# Altium integrated library Analog Devices Data Converters Digital-to-Analog Converters.IntLib: 2231 symbols (part 32 of 181)
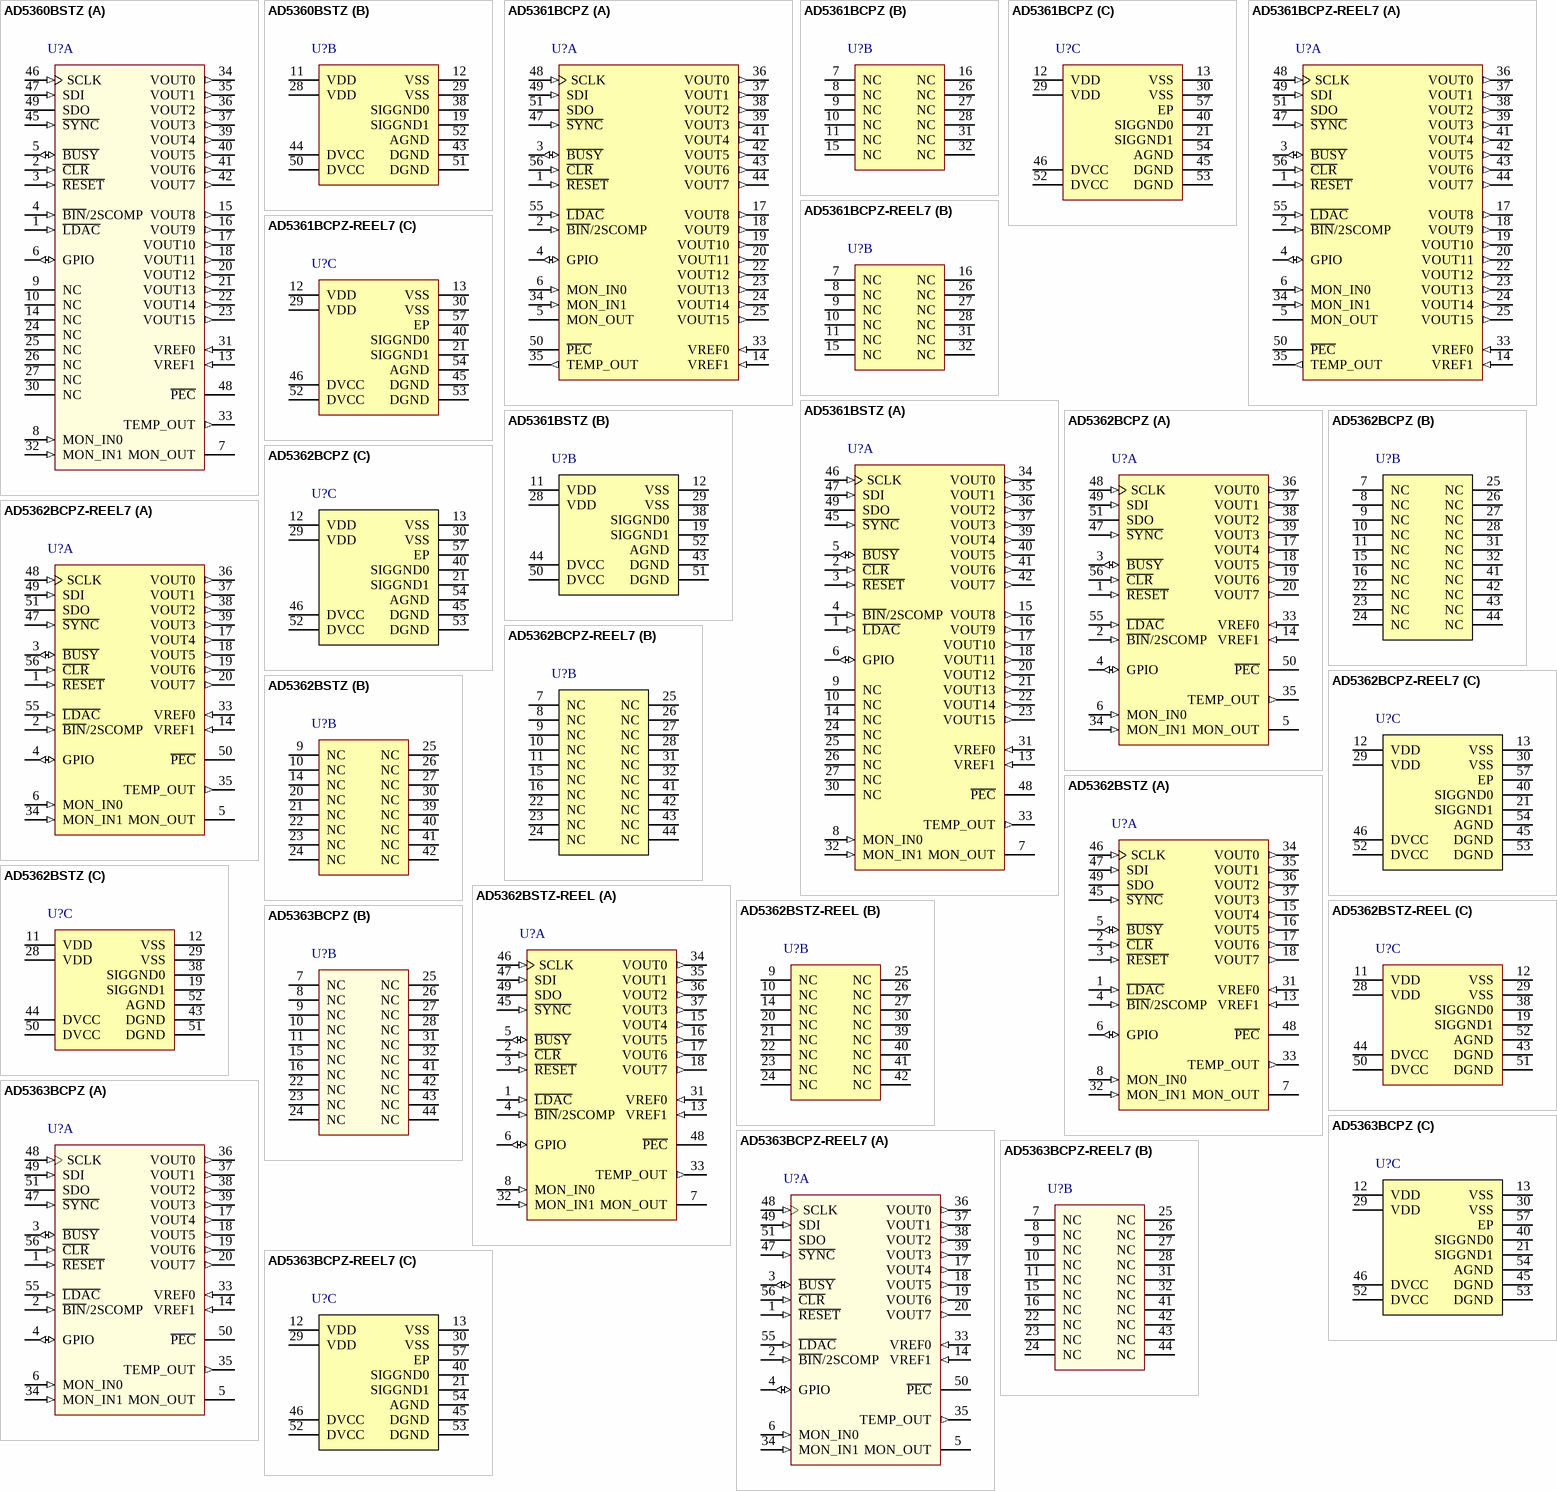
[diagram p145: symbols AD5360BSTZ to AD5363BCPZ-REEL7]

## AD5361BCPZ-REEL7
designator U?
14-Bit Digital-to-Analog Converter with Serial Interface, -40 to +85 degC, CP-56-1, Pb-Free, Reel; Generic Part Number: AD5361; Manufacturer: Analog Devices; PartNumber: AD5361BCPZ-REEL7; # DAC Outputs: 16; Max V+: 16.5V; Op Pwr Diss: 130mW; Resolution (Bits): 14; Settling Time: 20µs; Single Supply: No; DatasheetVersion: Rev.A; PackageVersion: 112805-0; PackageReference: CP-56-1; PackageDescription: 56-Lead Lead Frame Chip Scale Package [LFCSP_VQ], 8 x 8 mm Body, Very Thin Quad; Supplier 1: Digi-Key; Supplier Part Number 1: AD5361BCPZ-REEL7-ND; Supplier 2: Mouser; Supplier Part Number 2: 584-AD5361BCPZ-R7; Packing: Reel; RoHS: Y; Mounting Technology: Surface Mount; Code_JEDEC: MO-220-VLLD-2; ComponentLink1Description: Manufacturer URL; ComponentLink1URL: http://www.analog.com/en/index.html; ComponentLink2Description: Datasheet; ComponentLink2URL: http://www.analog.com/static/imported-files/data_sheets/AD5360_5361.pdf; ComponentLink3Description: Package Specification; ComponentLink3URL: http://www.analog.com/static/imported-files/packages/32698137492825CP_56_1.pdf; ComponentLink4Description: Product URL; ComponentLink4URL: http://www.analog.com/en/digital-to-analog-converters/da-converters/ad5361/products/product.html
footprint CP-56-1_N (QFN, 56-Leads, Body 8x8mm, Pitch 0.5mm, Thermal Pad 6.1x6.1mm, IPC Medium Density)
footprint CP-56-1_L (QFN, 56-Leads, Body 8x8mm, Pitch 0.5mm, Thermal Pad 6.1x6.1mm, IPC High Density)
footprint CP-56-1_M (QFN, 56-Leads, Body 8x8mm, Pitch 0.5mm, Thermal Pad 6.1x6.1mm, IPC Low Density)
part A pins: 1 ~{RESET} (in) "Digital Reset Input.", 2 ~{BIN}/2SCOMP (in) "Data Format Digital Input. Connecting this pin to DGND selects offset binary. Connecting this pin to logic 1 selects twos complement. This input has a weak pull-down.", 3 ~{BUSY} (io) "Digital Input/Open-Drain Output. B\U\S\Y\ is open drain when it is an output. See the B\U\S\Y\ and L\D\A\C\ Functions section for more information.", 4 GPIO (io) "Digital I/O Pin. This pin can be configured as an input or output that can be read or programmed high or low via the serial interface. When configured as an input, it has a weak pull-down.", 5 MON_OUT (hiz) "Analog Multiplexer Output. Any DAC output, the MON_IN0 input, or the MON_IN1 input can be switched to this output.", 6 MON_IN0 (in) "Analog Multiplexer Inputs. Can be switched to MON_OUT.", 14 VREF1 (in) "Reference Input for DAC 8 to DAC 15. This voltage is referred to AGND.", 17 VOUT8 (out) "DAC Outputs. Buffered analog outputs for each of the 16 DAC channels. Each analog output is capable of driving an output load of 10 kO to ground. Typical output impedance of these amplifiers is 0.5 ohm.", 18 VOUT9 (out) "DAC Outputs. Buffered analog outputs for each of the 16 DAC channels. Each analog output is capable of driving an output load of 10 kO to ground. Typical output impedance of these amplifiers is 0.5 ohm.", 19 VOUT10 (out) "DAC Outputs. Buffered analog outputs for each of the 16 DAC channels. Each analog output is capable of driving an output load of 10 kO to ground. Typical output impedance of these amplifiers is 0.5 ohm.", 20 VOUT11 (out) "DAC Outputs. Buffered analog outputs for each of the 16 DAC channels. Each analog output is capable of driving an output load of 10 kO to ground. Typical output impedance of these amplifiers is 0.5ohm.", 22 VOUT12 (out) "DAC Outputs. Buffered analog outputs for each of the 16 DAC channels. Each analog output is capable of driving an output load of 10 kO to ground. Typical output impedance of these amplifiers is 0.5 ohm.", 23 VOUT13 (out) "DAC Outputs. Buffered analog outputs for each of the 16 DAC channels. Each analog output is capable of driving an output load of 10 kO to ground. Typical output impedance of these amplifiers is 0.5 ohm.", 24 VOUT14 (out) "DAC Outputs. Buffered analog outputs for each of the 16 DAC channels. Each analog output is capable of driving an output load of 10 kO to ground. Typical output impedance of these amplifiers is 0.5 ohm.", 25 VOUT15 (out) "DAC Outputs. Buffered analog outputs for each of the 16 DAC channels. Each analog output is capable of driving an output load of 10 kO to ground. Typical output impedance of these amplifiers is 0.5 ohm.", 33 VREF0 (in) "Reference Input for DAC 0 to DAC 7. This voltage is referred to AGND.", 34 MON_IN1 (in) "Analog Multiplexer Inputs. Can be switched to MON_OUT.", 35 TEMP_OUT (out) "Provides an output voltage proportional to chip temperature. This is typically 1.46 V at 25degreesC with an output variation of 4.4 mV/degreesC.", 36 VOUT0 (out) "DAC Outputs. Buffered analog outputs for each of the 16 DAC channels. Each analog output is capable of driving an output load of 10 kO to ground. Typical output impedance of these amplifiers is 0.5 ohm.", 37 VOUT1 (out) "DAC Outputs. Buffered analog outputs for each of the 16 DAC channels. Each analog output is capable of driving an output load of 10 kO to ground. Typical output impedance of these amplifiers is 0.5 ohm.", 38 VOUT2 (out) "DAC Outputs. Buffered analog outputs for each of the 16 DAC channels. Each analog output is capable of driving an output load of 10 kO to ground. Typical output impedance of these amplifiers is 0.5 ohm.", 39 VOUT3 (out) "DAC Outputs. Buffered analog outputs for each of the 16 DAC channels. Each analog output is capable of driving an output load of 10 kO to ground. Typical output impedance of these amplifiers is 0.5 ohm.", 41 VOUT4 (out) "DAC Outputs. Buffered analog outputs for each of the 16 DAC channels. Each analog output is capable of driving an output load of 10 kO to ground. Typical output impedance of these amplifiers is 0.5 ohm.", 42 VOUT5 (out) "DAC Outputs. Buffered analog outputs for each of the 16 DAC channels. Each analog output is capable of driving an output load of 10 kO to ground. Typical output impedance of these amplifiers is 0.5 ohm.", 43 VOUT6 (out) "DAC Outputs. Buffered analog outputs for each of the 16 DAC channels. Each analog output is capable of driving an output load of 10 kO to ground. Typical output impedance of these amplifiers is 0.5 ohm.", 44 VOUT7 (out) "DAC Outputs. Buffered analog outputs for each of the 16 DAC channels. Each analog output is capable of driving an output load of 10 kO to ground. Typical output impedance of these amplifiers is 0.5 ohm.", 47 ~{SYNC} (in) "Active Low or S\Y\N\C\ Input for SPI Interface. This is the frame synchronization signal for the SPI serial interface. See Figure 4, Figure 5, and the Serial Interface section for more details.", 48 SCLK (in) "Serial Clock Input for SPI Interface. See Figure 4, Figure 5, and the Serial Interface section for more details.", 49 SDI (in) "Serial Data Input for SPI Interface. See Figure 4, Figure 5, and the Serial Interface section for more details.", 50 ~{PEC} (oc) "Packet Error Check Output. This is an open-drain output with a 50 kO pull-up that goes low if the packet error check fails.", 51 SDO (hiz) "Serial Data Output for SPI Interface. See Figure 4, Figure 5, and the Serial Interface section for more details.", 55 ~{LDAC} (in) "Load DAC Logic Input (Active Low). See the B\U\S\Y\ and L\D\A\C\ Functions section for more information.", 56 ~{CLR} (in) "Asynchronous Clear Input (Level Sensitive, Active Low). See the Clear Function section for more information."
part B pins: 7 NC "No Connect.", 8 NC "No Connect.", 9 NC "No Connect.", 10 NC "No Connect.", 11 NC "No Connect.", 15 NC "No Connect.", 16 NC "No Connect.", 26 NC "No Connect.", 27 NC "No Connect.", 28 NC "No Connect.", 31 NC "No Connect.", 32 NC "No Connect."
part C pins: 12 VDD (power) "Positive Analog Power Supply; +9 V to +16.5 V for specified performance. These pins should be decoupled with 0.1 uF ceramic capacitors and 10 uF capacitors.", 13 VSS (power) "Negative Analog Power Supply; -16.5 V to -8 V for specified performance. These pins should be decoupled with 0.1 uF ceramic capacitors and 10 uF capacitors.", 21 SIGGND1 (power) "Reference Ground for DAC 8 to DAC 15. VOUT8 to VOUT15 are referenced to this voltage.", 29 VDD (power) "Positive Analog Power Supply; +9 V to +16.5 V for specified performance. These pins should be decoupled with 0.1 uF ceramic capacitors and 10 uF capacitors.", 30 VSS (power) "Negative Analog Power Supply; -16.5 V to -8 V for specified performance. These pins should be decoupled with 0.1 uF ceramic capacitors and 10 uF capacitors.", 40 SIGGND0 (power) "Reference Ground for DAC 0 to DAC 7. VOUT0 to VOUT7 are referenced to this voltage.", 45 DGND (power) "Ground for All Digital Circuitry. Both DGND pins should be connected to the DGND plane.", 46 DVCC (power) "Logic Power Supply; 2.5 V to 5.5 V. These pins should be decoupled with 0.1 uF ceramic capacitors and 10 uF capacitors.", 52 DVCC (power) "Logic Power Supply; 2.5 V to 5.5 V. These pins should be decoupled with 0.1 uF ceramic capacitors and 10 uF capacitors.", 53 DGND (power) "Ground for All Digital Circuitry. Both DGND pins should be connected to the DGND plane.", 54 AGND (power) "Ground for All Analog Circuitry. The AGND pin should be connected to the AGND plane.", 57 EP (power) "Exposed Paddle."

## AD5361BSTZ
designator U?
14-Bit Digital-to-Analog Converter with Serial Interface, -40 to +85 degC, ST-52, Pb-Free, Tray; Generic Part Number: AD5361; Manufacturer: Analog Devices; PartNumber: AD5361BSTZ; # DAC Outputs: 16; Max V+: 16.5V; Op Pwr Diss: 130mW; Resolution (Bits): 14; Settling Time: 20µs; Single Supply: No; DatasheetVersion: Rev.A; PackageVersion: 2003; PackageReference: ST-52; PackageDescription: 52-Lead Low Profile Quad Flat Package [LQFP]; Supplier 1: Digi-Key; Supplier Part Number 1: AD5361BSTZ-ND; Supplier 2: Farnell; Supplier Part Number 2: 1589549; Supplier 3: Mouser; Supplier Part Number 3: 584-AD5361BSTZ; Packing: Tray; RoHS: Y; Mounting Technology: Surface Mount; Code_JEDEC: MS-026-BCC; ComponentLink1Description: Manufacturer URL; ComponentLink1URL: http://www.analog.com/en/index.html; ComponentLink2Description: Datasheet; ComponentLink2URL: http://www.analog.com/static/imported-files/data_sheets/AD5360_5361.pdf; ComponentLink3Description: Package Specification; ComponentLink3URL: http://www.analog.com/static/imported-files/packages/61012411624300842189414155189544791816408612ST_52_10x10.pdf; ComponentLink4Description: Product URL; ComponentLink4URL: http://www.analog.com/en/digital-to-analog-converters/da-converters/ad5361/products/product.html
footprint ST-52_N (Thin QFP, 52-Leads, Body 10 x 10mm, Pitch 0.65mm, IPC Medium Density)
footprint ST-52_L (Thin QFP, 52-Leads, Body 10 x 10mm, Pitch 0.65mm, IPC High Density)
footprint ST-52_M (Thin QFP, 52-Leads, Body 10 x 10mm, Pitch 0.65mm, IPC Low Density)
part A pins: 1 ~{LDAC} (in) "Load DAC Logic Input (Active Low). See the B\U\S\Y\ and L\D\A\C\ Functions section for more information.", 2 ~{CLR} (in) "Asynchronous Clear Input (Level Sensitive, Active Low). See the Clear Function section for more information.", 3 ~{RESET} (in) "Digital Reset Input.", 4 ~{BIN}/2SCOMP (in) "Data Format Digital Input. Connecting this pin to DGND selects offset binary. Connecting this pin to logic 1 selects twos complement. This input has a weak pull-down.", 5 ~{BUSY} (io) "Digital Input/Open-Drain Output. B\U\S\Y\ is open drain when it is an output. See the B\U\S\Y\ and L\D\A\C\ Functions section for more information.", 6 GPIO (io) "Digital I/O Pin. This pin can be configured as an input or output that can be read or programmed high or low via the serial interface. When configured as an input, it has a weak pull-down.", 7 MON_OUT (hiz) "Analog Multiplexer Output. Any DAC output, the MON_IN0 input, or the MON_IN1 input can be switched to this output.", 8 MON_IN0 (in) "Analog Multiplexer Input. Can be switched to MON_OUT.", 9 NC "No Connect.", 10 NC "No Connect.", 13 VREF1 (in) "Reference Input for DAC 8 to DAC 15. This voltage is referred to AGND.", 14 NC "No Connect.", 15 VOUT8 (out) "DAC Output. Buffered analog outputs for each of the 16 DAC channels. Each analog output is capable of driving an output load of 10 k ohm to ground. Typical output impedance of these amplifiers is 0.5 ohm.", 16 VOUT9 (out) "DAC Output. Buffered analog outputs for each of the 16 DAC channels. Each analog output is capable of driving an output load of 10 k ohm to ground. Typical output impedance of these amplifiers is 0.5 ohm.", 17 VOUT10 (out) "DAC Output. Buffered analog outputs for each of the 16 DAC channels. Each analog output is capable of driving an output load of 10 k ohm to ground. Typical output impedance of these amplifiers is 0.5 ohm.", 18 VOUT11 (out) "DAC Output. Buffered analog outputs for each of the 16 DAC channels. Each analog output is capable of driving an output load of 10 k ohm to ground. Typical output impedance of these amplifiers is 0.5 ohm.", 20 VOUT12 (out) "DAC Output. Buffered analog outputs for each of the 16 DAC channels. Each analog output is capable of driving an output load of 10 k ohm to ground. Typical output impedance of these amplifiers is 0.5 ohm.", 21 VOUT13 (out) "DAC Output. Buffered analog outputs for each of the 16 DAC channels. Each analog output is capable of driving an output load of 10 k ohm to ground. Typical output impedance of these amplifiers is 0.5 ohm.", 22 VOUT14 (out) "DAC Output. Buffered analog outputs for each of the 16 DAC channels. Each analog output is capable of driving an output load of 10 k ohm to ground. Typical output impedance of these amplifiers is 0.5 ohm.", 23 VOUT15 (out) "DAC Output. Buffered analog outputs for each of the 16 DAC channels. Each analog output is capable of driving an output load of 10 k ohm to ground. Typical output impedance of these amplifiers is 0.5 ohm.", 24 NC "No Connect.", 25 NC "No Connect.", 26 NC "No Connect.", 27 NC "No Connect.", 30 NC "No Connect.", 31 VREF0 (in) "Reference Input for DAC 0 to DAC 7. This voltage is referred to AGND.", 32 MON_IN1 (in) "Analog Multiplexer Input. Can be switched to MON_OUT.", 33 TEMP_OUT (out) "Provides an output voltage proportional to chip temperature. This is typically 1.46 V at 25degreesC with an output variation of 4.4 mV/degreesC.", 34 VOUT0 (out) "DAC Output. Buffered analog outputs for each of the 16 DAC channels. Each analog output is capable of driving an output load of 10 k ohm to ground. Typical output impedance of these amplifiers is 0.5 ohm.", 35 VOUT1 (out) "DAC Output. Buffered analog outputs for each of the 16 DAC channels. Each analog output is capable of driving an output load of 10 k ohm to ground. Typical output impedance of these amplifiers is 0.5 ohm.", 36 VOUT2 (out) "DAC Output. Buffered analog outputs for each of the 16 DAC channels. Each analog output is capable of driving an output load of 10 k ohm to ground. Typical output impedance of these amplifiers is 0.5 ohm.", 37 VOUT3 (out) "DAC Output. Buffered analog outputs for each of the 16 DAC channels. Each analog output is capable of driving an output load of 10 k ohm to ground. Typical output impedance of these amplifiers is 0.5 ohm.", 39 VOUT4 (out) "DAC Output. Buffered analog outputs for each of the 16 DAC channels. Each analog output is capable of driving an output load of 10 k ohm to ground. Typical output impedance of these amplifiers is 0.5 ohm.", 40 VOUT5 (out) "DAC Output. Buffered analog outputs for each of the 16 DAC channels. Each analog output is capable of driving an output load of 10 k ohm to ground. Typical output impedance of these amplifiers is 0.5 ohm.", 41 VOUT6 (out) "DAC Output. Buffered analog outputs for each of the 16 DAC channels. Each analog output is capable of driving an output load of 10 k ohm to ground. Typical output impedance of these amplifiers is 0.5 ohm.", 42 VOUT7 (out) "DAC Output. Buffered analog outputs for each of the 16 DAC channels. Each analog output is capable of driving an output load of 10 k ohm to ground. Typical output impedance of these amplifiers is 0.5 ohm.", 45 ~{SYNC} (in) "Active Low or S\Y\N\C\ Input for SPI Interface. This is the frame synchronization signal for the SPI serial interface. See Figure 4, Figure 5,and the Serial Interface section for more details.", 46 SCLK (in) "Serial Clock Input for SPI Interface. See Figure 4, Figure 5, and the Serial Interface section for more details.", 47 SDI (in) "Serial Data Input for SPI Interface. See Figure 4, Figure 5, and the Serial Interface section for more details.", 48 ~{PEC} (oc) "Packet Error Check Output. This is an open-drain output with a 50 k ohm pull-up that goes low if the packet error check fails.", 49 SDO (hiz) "Serial Data Output for SPI Interface. See Figure 4, Figure 5, and the Serial Interface section for more details."
part B pins: 11 VDD (power) "Positive Analog Power Supply; +9 V to +16.5 V for specified performance. These pins should be decoupled with 0.1 uF ceramic capacitors and 10 uF capacitors.", 12 VSS (power) "Negative Analog Power Supply; -16.5 V to -8 V for specified performance. These pins should be decoupled with 0.1 uF ceramic capacitors and 10 uF capacitors.", 19 SIGGND1 (power) "Reference Ground for DAC 8 to DAC 15. VOUT8 to VOUT15 are referenced to this voltage.", 28 VDD (power) "Positive Analog Power Supply; +9 V to +16.5 V for specified performance. These pins should be decoupled with 0.1 uF ceramic capacitors and 10 uF capacitors.", 29 VSS (power) "Negative Analog Power Supply; -16.5 V to -8 V for specified performance. These pins should be decoupled with 0.1 uF ceramic capacitors and 10 uF capacitors.", 38 SIGGND0 (power) "Reference Ground for DAC 0 to DAC 7. VOUT0 to VOUT7 are referenced to this voltage.", 43 DGND (power) "Ground for All Digital Circuitry. Both DGND pins should be connected to the DGND plane.", 44 DVCC (power) "Logic Power Supply; 2.5 V to 5.5 V. These pins should be decoupled with 0.1 uF ceramic capacitors and 10 uF capacitors.", 50 DVCC (power) "Logic Power Supply; 2.5 V to 5.5 V. These pins should be decoupled with 0.1 uF ceramic capacitors and 10 uF capacitors.", 51 DGND (power) "Ground for All Digital Circuitry. Both DGND pins should be connected to the DGND plane.", 52 AGND (power) "Ground for All Analog Circuitry. The AGND pin should be connected to the AGND plane."

## AD5362BCPZ
designator U?
16-Bit Voltage Output Digital-to-Analog Converter with Serial Interface, -40 to +85 degC, CP-56-1, Pb-Free, Tray; Generic Part Number: AD5362; Manufacturer: Analog Devices; PartNumber: AD5362BCPZ; # DAC Outputs: 8; Max V+: 16.5V; Op Pwr Diss: 209mW; Resolution (Bits): 16; Settling Time: 20µs; Single Supply: No; DatasheetVersion: Rev.A; PackageVersion: 112805-0; PackageReference: CP-56-1; PackageDescription: 56-Lead Lead Frame Chip Scale Package [LFCSP_VQ], 8 x 8 mm Body, Very Thin Quad; Supplier 1: Digi-Key; Supplier Part Number 1: AD5362BCPZ-ND; Supplier 2: Farnell; Supplier Part Number 2: 1589545; Supplier 3: Newark; Supplier Part Number 3: 34M4967; Supplier 4: Mouser; Supplier Part Number 4: 584-AD5362BCPZ; Packing: Tray; RoHS: Y; Mounting Technology: Surface Mount; Code_JEDEC: MO-220-VLLD-2; ComponentLink1Description: Manufacturer URL; ComponentLink1URL: http://www.analog.com/en/index.html; ComponentLink2Description: Datasheet; ComponentLink2URL: http://www.analog.com/static/imported-files/data_sheets/AD5362_5363.pdf; ComponentLink3Description: Package Specification; ComponentLink3URL: http://www.analog.com/static/imported-files/packages/32698137492825CP_56_1.pdf; ComponentLink4Description: Product URL; ComponentLink4URL: http://www.analog.com/en/digital-to-analog-converters/da-converters/ad5362/products/product.html
footprint CP-56-1_N (QFN, 56-Leads, Body 8x8mm, Pitch 0.5mm, Thermal Pad 6.1x6.1mm, IPC Medium Density)
footprint CP-56-1_L (QFN, 56-Leads, Body 8x8mm, Pitch 0.5mm, Thermal Pad 6.1x6.1mm, IPC High Density)
footprint CP-56-1_M (QFN, 56-Leads, Body 8x8mm, Pitch 0.5mm, Thermal Pad 6.1x6.1mm, IPC Low Density)
part A pins: 1 ~{RESET} (in) "Digital Reset Input.", 2 ~{BIN}/2SCOMP (in) "Data Format Digital Input. Connecting this pin to DGND selects offset binary. Setting this pin to 1 selects twos complement. This input has a weak pull-down.", 3 ~{BUSY} (io) "Digital Input/Open-Drain Output. B\U\SY\ is open drain when it is an output. See the B\U\S\Y\ and L\D\A\C\ Functions section for more information.", 4 GPIO (io) "Digital I/O Pin. This pin can be configured as an input or output that can be read back or programmed high or low via the serial interface. When configured as an input, this pin has a weak pull-down.", 5 MON_OUT (hiz) "Analog Multiplexer Output. Any DAC output, the MON_IN0 input, or the MON_IN1 input can be routed to this output for monitoring", 6 MON_IN0 (in) "Analog Multiplexer Input. Can be routed to MON_OUT.", 14 VREF1 (in) "Reference Input for DAC 4 to DAC 7. This reference voltage is referred to AGND.", 17 VOUT4 (out) "DAC Output. Buffered analog outputs for each of the eight DAC channels. Each analog output is capable of driving an output load of 10 kO to ground. Typical output impedance of these amplifiers is 0.5 O.", 18 VOUT5 (out) "DAC Output. Buffered analog outputs for each of the eight DAC channels. Each analog output is capable of driving an output load of 10 kO to ground. Typical output impedance of these amplifiers is 0.5 O.", 19 VOUT6 (out) "DAC Output. Buffered analog outputs for each of the eight DAC channels. Each analog output is capable of driving an output load of 10 kO to ground. Typical output impedance of these amplifiers is 0.5 O.", 20 VOUT7 (out) "DAC Output. Buffered analog outputs for each of the eight DAC channels. Each analog output is capable of driving an output load of 10 kO to ground. Typical output impedance of these amplifiers is 0.5 O.", 33 VREF0 (in) "Reference Input for DAC 0 to DAC 3. This reference voltage is referred to AGND.", 34 MON_IN1 (in) "Analog Multiplexer Inputs. Can be routed to MON_OUT.", 35 TEMP_OUT (out) "Provides an output voltage proportional to the chip temperature, typically 1.46 V at 25degreesC with an output variation of 4.4 mV/degreesC", 36 VOUT0 (out) "DAC Output. Buffered analog outputs for each of the eight DAC channels. Each analog output is capable of driving an output load of 10 kO to ground. Typical output impedance of these amplifiers is 0.5 O.", 37 VOUT1 (out) "DAC Output. Buffered analog outputs for each of the eight DAC channels. Each analog output is capable of driving an output load of 10 kO to ground. Typical output impedance of these amplifiers is 0.5 O.", 38 VOUT2 (out) "DAC Output. Buffered analog outputs for each of the eight DAC channels. Each analog output is capable of driving an output load of 10 kO to ground. Typical output impedance of these amplifiers is 0.5 O.", 39 VOUT3 (out) "DAC Output. Buffered analog outputs for each of the eight DAC channels. Each analog output is capable of driving an output load of 10 kO to ground. Typical output impedance of these amplifiers is 0.5 O.", 47 ~{SYNC} (in) "Active Low or S\Y\N\C\  Input for SPI Interface. This is the frame synchronization signal for the SPI serial interface. See Figure 4 , Figure 5, and the  Serial Interface section for more details", 48 SCLK (in) "Serial Clock Input for SPI Interface. See Figure 4, Figure 5, and the Serial Interface section for more details.", 49 SDI (in) "Serial Data Input for SPI Interface. See Figure 4, Figure 5, and the Serial Interface section for more details.", 50 ~{PEC} (oc) "Packet Error Check Output. This is an open-drain output with a 50 kO pull-up that goes low if the packet error check fails.", 51 SDO (hiz) "Serial Data Output for SPI Interface. See Figure 4, Figure 5, and the Serial Interface section for more details.", 55 ~{LDAC} (in) "Load DAC Logic Input (Active Low). See the BUSY and LDAC Functions section for more information", 56 ~{CLR} (in) "Asynchronous Clear Input (Level Sensitive, Active Low). See the Clear Function section for more information"
part B pins: 7 NC "No Connect.", 8 NC "No Connect.", 9 NC "No Connect.", 10 NC "No Connect.", 11 NC "No Connect.", 15 NC "No Connect.", 16 NC "No Connect.", 22 NC "No Connect.", 23 NC "No Connect.", 24 NC "No Connect.", 25 NC "No Connect.", 26 NC "No Connect.", 27 NC "No Connect.", 28 NC "No Connect.", 31 NC "No Connect.", 32 NC "No Connect.", 41 NC "No Connect.", 42 NC "No Connect.", 43 NC "No Connect.", 44 NC "No Connect."
part C pins: 12 VDD (power) "Positive Analog Power Supply; 9 V to 16.5 V for specified performance. These pins should be decoupled with 0.1 uF ceramic capacitors and 10 uF capacitors", 13 VSS (power) "Negative Analog Power Supply; -16.5 V to -8 V for specified performance. These pins should be decoupled with 0.1 uF ceramic capacitors and 10 uF capacitors.", 21 SIGGND1 (power) "Reference Ground for DAC 4 to DAC 7. VOUT4 to VOUT7 are referenced to this voltage.", 29 VDD (power) "Positive Analog Power Supply; 9 V to 16.5 V for specified performance. These pins should be decoupled with 0.1 uF ceramic capacitors and 10 uF capacitors", 30 VSS (power) "Negative Analog Power Supply; -16.5 V to -8 V for specified performance. These pins should be decoupled with 0.1 uF ceramic capacitors and 10 uF capacitors.", 40 SIGGND0 (power) "Reference Ground for DAC 0 to DAC 3. VOUT0 to VOUT3 are referenced to this voltage.", 45 DGND (power) "Ground for All Digital Circuitry. Both DGND pins should be connected to the DGND plane.", 46 DVCC (power) "Logic Power Supply; 2.5 V to 5.5 V. These pins should be decoupled with 0.1 uF ceramic capacitors and 10 uF capacitors.", 52 DVCC (power) "Logic Power Supply; 2.5 V to 5.5 V. These pins should be decoupled with 0.1 uF ceramic capacitors and 10 uF capacitors.", 53 DGND (power) "Ground for All Digital Circuitry. Both DGND pins should be connected to the DGND plane.", 54 AGND (power) "Ground for All Analog Circuitry. The AGND pin should be connected to the AGND plane.", 57 EP (power) "Exposed Paddle. Connect to VSS."

## AD5362BCPZ-REEL7
designator U?
8 Channel 16-Bit, Voltage Output Digital-to-Analog Converter with Serial Interface, -40 to +85 degC, CP-56-1, Pb-Free, Reel; Generic Part Number: AD5362; Manufacturer: Analog Devices; PartNumber: AD5362BCPZ-REEL7; # DAC Outputs: 8; Max V+: 16.5V; Op Pwr Diss: 209mW; Resolution (Bits): 16; Settling Time: 20µs; Single Supply: No; DatasheetVersion: Rev.A; PackageVersion: 112805-0; PackageReference: CP-56-1; PackageDescription: 56-Lead Lead Frame Chip Scale Package [LFCSP_VQ], 8 x 8 mm Body, Very Thin Quad; Supplier 1: Digi-Key; Supplier Part Number 1: AD5362BCPZ-REEL7-ND; Supplier 2: Mouser; Supplier Part Number 2: 584-AD5362BCPZ-R7; Packing: Reel; RoHS: Y; Mounting Technology: Surface Mount; Code_JEDEC: MO-220-VLLD-2; ComponentLink1Description: Manufacturer URL; ComponentLink1URL: http://www.analog.com/en/index.html; ComponentLink2Description: Datasheet; ComponentLink2URL: http://www.analog.com/static/imported-files/data_sheets/AD5362_5363.pdf; ComponentLink3Description: Package Specification; ComponentLink3URL: http://www.analog.com/static/imported-files/packages/32698137492825CP_56_1.pdf; ComponentLink4Description: Product URL; ComponentLink4URL: http://www.analog.com/en/digital-to-analog-converters/da-converters/ad5362/products/product.html
footprint CP-56-1_N (QFN, 56-Leads, Body 8x8mm, Pitch 0.5mm, Thermal Pad 6.1x6.1mm, IPC Medium Density)
footprint CP-56-1_L (QFN, 56-Leads, Body 8x8mm, Pitch 0.5mm, Thermal Pad 6.1x6.1mm, IPC High Density)
footprint CP-56-1_M (QFN, 56-Leads, Body 8x8mm, Pitch 0.5mm, Thermal Pad 6.1x6.1mm, IPC Low Density)
part A pins: 1 ~{RESET} (in) "Digital Reset Input.", 2 ~{BIN}/2SCOMP (in) "Data Format Digital Input. Connecting this pin to DGND selects offset binary. Setting this pin to 1 selects twos complement. This input has a weak pull-down.", 3 ~{BUSY} (io) "Digital Input/Open-Drain Output. B\U\SY\ is open drain when it is an output. See the B\U\S\Y\ and L\D\A\C\ Functions section for more information.", 4 GPIO (io) "Digital I/O Pin. This pin can be configured as an input or output that can be read back or programmed high or low via the serial interface. When configured as an input, this pin has a weak pull-down.", 5 MON_OUT (hiz) "Analog Multiplexer Output. Any DAC output, the MON_IN0 input, or the MON_IN1 input can be routed to this output for monitoring", 6 MON_IN0 (in) "Analog Multiplexer Input. Can be routed to MON_OUT.", 14 VREF1 (in) "Reference Input for DAC 4 to DAC 7. This reference voltage is referred to AGND.", 17 VOUT4 (out) "DAC Output. Buffered analog outputs for each of the eight DAC channels. Each analog output is capable of driving an output load of 10 kO to ground. Typical output impedance of these amplifiers is 0.5 O.", 18 VOUT5 (out) "DAC Output. Buffered analog outputs for each of the eight DAC channels. Each analog output is capable of driving an output load of 10 kO to ground. Typical output impedance of these amplifiers is 0.5 O.", 19 VOUT6 (out) "DAC Output. Buffered analog outputs for each of the eight DAC channels. Each analog output is capable of driving an output load of 10 kO to ground. Typical output impedance of these amplifiers is 0.5 O.", 20 VOUT7 (out) "DAC Output. Buffered analog outputs for each of the eight DAC channels. Each analog output is capable of driving an output load of 10 kO to ground. Typical output impedance of these amplifiers is 0.5 O.", 33 VREF0 (in) "Reference Input for DAC 0 to DAC 3. This reference voltage is referred to AGND.", 34 MON_IN1 (in) "Analog Multiplexer Inputs. Can be routed to MON_OUT.", 35 TEMP_OUT (out) "Provides an output voltage proportional to the chip temperature, typically 1.46 V at 25degreesC with an output variation of 4.4 mV/degreesC", 36 VOUT0 (out) "DAC Output. Buffered analog outputs for each of the eight DAC channels. Each analog output is capable of driving an output load of 10 kO to ground. Typical output impedance of these amplifiers is 0.5 O.", 37 VOUT1 (out) "DAC Output. Buffered analog outputs for each of the eight DAC channels. Each analog output is capable of driving an output load of 10 kO to ground. Typical output impedance of these amplifiers is 0.5 O.", 38 VOUT2 (out) "DAC Output. Buffered analog outputs for each of the eight DAC channels. Each analog output is capable of driving an output load of 10 kO to ground. Typical output impedance of these amplifiers is 0.5 O.", 39 VOUT3 (out) "DAC Output. Buffered analog outputs for each of the eight DAC channels. Each analog output is capable of driving an output load of 10 kO to ground. Typical output impedance of these amplifiers is 0.5 O.", 47 ~{SYNC} (in) "Active Low or S\Y\N\C\  Input for SPI Interface. This is the frame synchronization signal for the SPI serial interface. See Figure 4 , Figure 5, and the  Serial Interface section for more details", 48 SCLK (in) "Serial Clock Input for SPI Interface. See Figure 4, Figure 5, and the Serial Interface section for more details.", 49 SDI (in) "Serial Data Input for SPI Interface. See Figure 4, Figure 5, and the Serial Interface section for more details.", 50 ~{PEC} (oc) "Packet Error Check Output. This is an open-drain output with a 50 kO pull-up that goes low if the packet error check fails.", 51 SDO (hiz) "Serial Data Output for SPI Interface. See Figure 4, Figure 5, and the Serial Interface section for more details.", 55 ~{LDAC} (in) "Load DAC Logic Input (Active Low). See the BUSY and LDAC Functions section for more information", 56 ~{CLR} (in) "Asynchronous Clear Input (Level Sensitive, Active Low). See the Clear Function section for more information"
part B pins: 7 NC "No Connect.", 8 NC "No Connect.", 9 NC "No Connect.", 10 NC "No Connect.", 11 NC "No Connect.", 15 NC "No Connect.", 16 NC "No Connect.", 22 NC "No Connect.", 23 NC "No Connect.", 24 NC "No Connect.", 25 NC "No Connect.", 26 NC "No Connect.", 27 NC "No Connect.", 28 NC "No Connect.", 31 NC "No Connect.", 32 NC "No Connect.", 41 NC "No Connect.", 42 NC "No Connect.", 43 NC "No Connect.", 44 NC "No Connect."
part C pins: 12 VDD (power) "Positive Analog Power Supply; 9 V to 16.5 V for specified performance. These pins should be decoupled with 0.1 uF ceramic capacitors and 10 uF capacitors", 13 VSS (power) "Negative Analog Power Supply; -16.5 V to -8 V for specified performance. These pins should be decoupled with 0.1 uF ceramic capacitors and 10 uF capacitors.", 21 SIGGND1 (power) "Reference Ground for DAC 4 to DAC 7. VOUT4 to VOUT7 are referenced to this voltage.", 29 VDD (power) "Positive Analog Power Supply; 9 V to 16.5 V for specified performance. These pins should be decoupled with 0.1 uF ceramic capacitors and 10 uF capacitors", 30 VSS (power) "Negative Analog Power Supply; -16.5 V to -8 V for specified performance. These pins should be decoupled with 0.1 uF ceramic capacitors and 10 uF capacitors.", 40 SIGGND0 (power) "Reference Ground for DAC 0 to DAC 3. VOUT0 to VOUT3 are referenced to this voltage.", 45 DGND (power) "Ground for All Digital Circuitry. Both DGND pins should be connected to the DGND plane.", 46 DVCC (power) "Logic Power Supply; 2.5 V to 5.5 V. These pins should be decoupled with 0.1 uF ceramic capacitors and 10 uF capacitors.", 52 DVCC (power) "Logic Power Supply; 2.5 V to 5.5 V. These pins should be decoupled with 0.1 uF ceramic capacitors and 10 uF capacitors.", 53 DGND (power) "Ground for All Digital Circuitry. Both DGND pins should be connected to the DGND plane.", 54 AGND (power) "Ground for All Analog Circuitry. The AGND pin should be connected to the AGND plane.", 57 EP (power) "Exposed Paddle. Connect to VSS."

## AD5362BSTZ
designator U?
16-Bit Voltage Output Digital-to-Analog Converter with Serial Interface, -40 to +85 degC, ST-52, Pb-Free, Tray; Generic Part Number: AD5362; Manufacturer: Analog Devices; PartNumber: AD5362BSTZ; # DAC Outputs: 8; Max V+: 16.5V; Op Pwr Diss: 209mW; Resolution (Bits): 16; Settling Time: 20µs; Single Supply: No; DatasheetVersion: Rev.A; PackageVersion: 2003; PackageReference: ST-52; PackageDescription: 52-Lead Low Profile Quad Flat Package [LQFP]; Supplier 1: Digi-Key; Supplier Part Number 1: AD5362BSTZ-ND; Supplier 2: Farnell; Supplier Part Number 2: 1589546; Supplier 3: Farnell; Supplier Part Number 3: 1581723; Supplier 4: Newark; Supplier Part Number 4: 34M4969; Supplier 5: Mouser; Supplier Part Number 5: 584-AD5362BSTZ; Packing: Tray; RoHS: Y; Mounting Technology: Surface Mount; Code_JEDEC: MS-026-BCC; ComponentLink1Description: Manufacturer URL; ComponentLink1URL: http://www.analog.com/en/index.html; ComponentLink2Description: Datasheet; ComponentLink2URL: http://www.analog.com/static/imported-files/data_sheets/AD5362_5363.pdf; ComponentLink3Description: Package Specification; ComponentLink3URL: http://www.analog.com/static/imported-files/packages/61012411624300842189414155189544791816408612ST_52_10x10.pdf; ComponentLink4Description: Product URL; ComponentLink4URL: http://www.analog.com/en/digital-to-analog-converters/da-converters/ad5362/products/product.html
footprint ST-52_N (Thin QFP, 52-Leads, Body 10 x 10mm, Pitch 0.65mm, IPC Medium Density)
footprint ST-52_L (Thin QFP, 52-Leads, Body 10 x 10mm, Pitch 0.65mm, IPC High Density)
footprint ST-52_M (Thin QFP, 52-Leads, Body 10 x 10mm, Pitch 0.65mm, IPC Low Density)
part A pins: 1 ~{LDAC} (in) "Load DAC Logic Input (Active Low). See the B\U\S\Y\ and L\D\A\C\ Functions section for more information.", 2 ~{CLR} (in) "Asynchronous Clear Input (Level Sensitive, Active Low). See the Clear Function section for more information.", 3 ~{RESET} (in) "Digital Reset Input", 4 ~{BIN}/2SCOMP (in) "Data Format Digital Input. Connecting this pin to DGND selects offset binary. Setting this pin to 1 selects twos complement. This input has a weak pull-down.", 5 ~{BUSY} (io) "Digital Input/Open-Drain Output. B\U\S\Y\ is open drain when it is an output. See the B\U\S\Y\ and L\D\A\C\ Functions section for more information.", 6 GPIO (io) "Digital I/O Pin. This pin can be configured as an input or output that can be read back or programmed high or low via the serial interface. When configured as an input, this pin has weak pull-down.", 7 MON_OUT (hiz) "Analog Multiplexer Output. Any DAC output, the MON_IN0 input, or the MON_IN1 input can be routed to this output for monitoring.", 8 MON_IN0 (in) "Analog Multiplexer Input. Can be routed to MON_OUT.", 13 VREF1 (in) "Reference Input for DAC 4 to DAC 7. This reference voltage is referred to AGND.", 15 VOUT4 (out) "DAC Output. Buffered analog outputs for each of the eight DAC channels. Each analog output is capable of driving an output load of 10 kO to ground. Typical output impedance of these amplifiers is 0.5 O", 16 VOUT5 (out) "DAC Output. Buffered analog outputs for each of the eight DAC channels. Each analog output is capable of driving an output load of 10 kO to ground. Typical output impedance of these amplifiers is 0.5 O", 17 VOUT6 (out) "DAC Output. Buffered analog outputs for each of the eight DAC channels. Each analog output is capable of driving an output load of 10 kO to ground. Typical output impedance of these amplifiers is 0.5 O", 18 VOUT7 (out) "DAC Output. Buffered analog outputs for each of the eight DAC channels. Each analog output is capable of driving an output load of 10 kO to ground. Typical output impedance of these amplifiers is 0.5 O", 31 VREF0 (in) "Reference Input for DAC 0 to DAC 3. This reference voltage is referred to AGND.", 32 MON_IN1 (in) "Analog Multiplexer Input. Can be routed to MON_OUT.", 33 TEMP_OUT (out) "Provides an output voltage proportional to the chip temperature, typically 1.46 V at 25degreesC with an output variation of 4.4 mV/degreesC.", 34 VOUT0 (out) "DAC Output. Buffered analog outputs for each of the eight DAC channels. Each analog output is capable of driving an output load of 10 kO to ground. Typical output impedance of these amplifiers is 0.5 O", 35 VOUT1 (out) "DAC Output. Buffered analog outputs for each of the eight DAC channels. Each analog output is capable of driving an output load of 10 kO to ground. Typical output impedance of these amplifiers is 0.5 O", 36 VOUT2 (out) "DAC Output. Buffered analog outputs for each of the eight DAC channels. Each analog output is capable of driving an output load of 10 kO to ground. Typical output impedance of these amplifiers is 0.5 O", 37 VOUT3 (out) "DAC Output. Buffered analog outputs for each of the eight DAC channels. Each analog output is capable of driving an output load of 10 kO to ground. Typical output impedance of these amplifiers is 0.5 O", 45 ~{SYNC} (in) "Active Low or SYNC Input for SPI Interface. This is the frame synchronization signal for the SPI serial interface. See Figure 4 , Figure 5, and the  Serial Interface section for more details", 46 SCLK (in) "Serial Clock Input for SPI Interface. See Figure 4, Figure 5, and the Serial Interface section for more details", 47 SDI (in) "Serial Data Input for SPI Interface. See Figure 4, Figure 5, and the Serial Interface section for more details.", 48 ~{PEC} (oc) "Packet Error Check Output. This is an open-drain output with a 50 kO pull-up that goes low if the packet error check fails.", 49 SDO (hiz) "Serial Data Output for SPI Interface. See Figure 4, Figure 5, and the Serial Interface section for more details."
part B pins: 9 NC "No Connect", 10 NC "No Connect", 14 NC "No Connect", 20 NC "No Connect", 21 NC "No Connect", 22 NC "No Connect", 23 NC "No Connect", 24 NC "No Connect", 25 NC "No Connect", 26 NC "No Connect", 27 NC "No Connect", 30 NC "No Connect", 39 NC "No Connect", 40 NC "No Connect", 41 NC "No Connect", 42 NC "No Connect"
part C pins: 11 VDD (power) "Positive Analog Power Supply; 9 V to 16.5 V for specified performance. These pins should be decoupled with 0.1 uF ceramic capacitors and 10 uF capacitors.", 12 VSS (power) "Negative Analog Power Supply; -16.5 V to -8 V for specified performance. These pins should be decoupled with 0.1 uF ceramic capacitors and 10 uF capacitors.", 19 SIGGND1 (power) "Reference Ground for DAC 4 to DAC 7. VOUT4 to VOUT7 are referenced to this voltage.", 28 VDD (power) "Positive Analog Power Supply; 9 V to 16.5 V for specified performance. These pins should be decoupled with 0.1 uF ceramic capacitors and 10 uF capacitors.", 29 VSS (power) "Negative Analog Power Supply; -16.5 V to -8 V for specified performance. These pins should be decoupled with 0.1 uF ceramic capacitors and 10 uF capacitors.", 38 SIGGND0 (power) "Reference Ground for DAC 0 to DAC 3. VOUT0 to VOUT3 are referenced to this voltage.", 43 DGND (power) "Ground for All Digital Circuitry. Both DGND pins should be connected to the DGND plane.", 44 DVCC (power) "Logic Power Supply; 2.5 V to 5.5 V. These pins should be decoupled with 0.1 uF ceramic capacitors and 10 uF capacitors", 50 DVCC (power) "Logic Power Supply; 2.5 V to 5.5 V. These pins should be decoupled with 0.1 uF ceramic capacitors and 10 uF capacitors", 51 DGND (power) "Ground for All Digital Circuitry. Both DGND pins should be connected to the DGND plane.", 52 AGND (power) "Ground for All Analog Circuitry. The AGND pin should be connected to the AGND plane."

## AD5362BSTZ-REEL
designator U?
16-Bit Voltage Output Digital-to-Analog Converter with Serial Interface, -40 to +85 degC, ST-52, Pb-Free, Reel; Generic Part Number: AD5362; Manufacturer: Analog Devices; PartNumber: AD5362BSTZ-REEL; # DAC Outputs: 8; Max V+: 16.5V; Op Pwr Diss: 209mW; Resolution (Bits): 16; Settling Time: 20µs; Single Supply: No; DatasheetVersion: Rev.A; PackageVersion: 2003; PackageReference: ST-52; PackageDescription: 52-Lead Low Profile Quad Flat Package [LQFP]; Supplier 1: Digi-Key; Supplier Part Number 1: AD5362BSTZ-REEL-ND; Supplier 2: Mouser; Supplier Part Number 2: 584-AD5362BSTZ-R; Packing: Reel; RoHS: Y; Mounting Technology: Surface Mount; Code_JEDEC: MS-026-BCC; ComponentLink1Description: Manufacturer URL; ComponentLink1URL: http://www.analog.com/en/index.html; ComponentLink2Description: Datasheet; ComponentLink2URL: http://www.analog.com/static/imported-files/data_sheets/AD5362_5363.pdf; ComponentLink3Description: Package Specification; ComponentLink3URL: http://www.analog.com/static/imported-files/packages/61012411624300842189414155189544791816408612ST_52_10x10.pdf; ComponentLink4Description: Product URL; ComponentLink4URL: http://www.analog.com/en/digital-to-analog-converters/da-converters/ad5362/products/product.html
footprint ST-52_N (Thin QFP, 52-Leads, Body 10 x 10mm, Pitch 0.65mm, IPC Medium Density)
footprint ST-52_L (Thin QFP, 52-Leads, Body 10 x 10mm, Pitch 0.65mm, IPC High Density)
footprint ST-52_M (Thin QFP, 52-Leads, Body 10 x 10mm, Pitch 0.65mm, IPC Low Density)
part A pins: 1 ~{LDAC} (in) "Load DAC Logic Input (Active Low). See the B\U\S\Y\ and L\D\A\C\ Functions section for more information.", 2 ~{CLR} (in) "Asynchronous Clear Input (Level Sensitive, Active Low). See the Clear Function section for more information.", 3 ~{RESET} (in) "Digital Reset Input", 4 ~{BIN}/2SCOMP (in) "Data Format Digital Input. Connecting this pin to DGND selects offset binary. Setting this pin to 1 selects twos complement. This input has a weak pull-down.", 5 ~{BUSY} (io) "Digital Input/Open-Drain Output. B\U\S\Y\ is open drain when it is an output. See the B\U\S\Y\ and L\D\A\C\ Functions section for more information.", 6 GPIO (io) "Digital I/O Pin. This pin can be configured as an input or output that can be read back or programmed high or low via the serial interface. When configured as an input, this pin has weak pull-down.", 7 MON_OUT (hiz) "Analog Multiplexer Output. Any DAC output, the MON_IN0 input, or the MON_IN1 input can be routed to this output for monitoring.", 8 MON_IN0 (in) "Analog Multiplexer Input. Can be routed to MON_OUT.", 13 VREF1 (in) "Reference Input for DAC 4 to DAC 7. This reference voltage is referred to AGND.", 15 VOUT4 (out) "DAC Output. Buffered analog outputs for each of the eight DAC channels. Each analog output is capable of driving an output load of 10 kO to ground. Typical output impedance of these amplifiers is 0.5 O", 16 VOUT5 (out) "DAC Output. Buffered analog outputs for each of the eight DAC channels. Each analog output is capable of driving an output load of 10 kO to ground. Typical output impedance of these amplifiers is 0.5 O", 17 VOUT6 (out) "DAC Output. Buffered analog outputs for each of the eight DAC channels. Each analog output is capable of driving an output load of 10 kO to ground. Typical output impedance of these amplifiers is 0.5 O", 18 VOUT7 (out) "DAC Output. Buffered analog outputs for each of the eight DAC channels. Each analog output is capable of driving an output load of 10 kO to ground. Typical output impedance of these amplifiers is 0.5 O", 31 VREF0 (in) "Reference Input for DAC 0 to DAC 3. This reference voltage is referred to AGND.", 32 MON_IN1 (in) "Analog Multiplexer Input. Can be routed to MON_OUT.", 33 TEMP_OUT (out) "Provides an output voltage proportional to the chip temperature, typically 1.46 V at 25degreesC with an output variation of 4.4 mV/degreesC.", 34 VOUT0 (out) "DAC Output. Buffered analog outputs for each of the eight DAC channels. Each analog output is capable of driving an output load of 10 kO to ground. Typical output impedance of these amplifiers is 0.5 O", 35 VOUT1 (out) "DAC Output. Buffered analog outputs for each of the eight DAC channels. Each analog output is capable of driving an output load of 10 kO to ground. Typical output impedance of these amplifiers is 0.5 O", 36 VOUT2 (out) "DAC Output. Buffered analog outputs for each of the eight DAC channels. Each analog output is capable of driving an output load of 10 kO to ground. Typical output impedance of these amplifiers is 0.5 O", 37 VOUT3 (out) "DAC Output. Buffered analog outputs for each of the eight DAC channels. Each analog output is capable of driving an output load of 10 kO to ground. Typical output impedance of these amplifiers is 0.5 O", 45 ~{SYNC} (in) "Active Low or SYNC Input for SPI Interface. This is the frame synchronization signal for the SPI serial interface. See Figure 4 , Figure 5, and the  Serial Interface section for more details", 46 SCLK (in) "Serial Clock Input for SPI Interface. See Figure 4, Figure 5, and the Serial Interface section for more details", 47 SDI (in) "Serial Data Input for SPI Interface. See Figure 4, Figure 5, and the Serial Interface section for more details.", 48 ~{PEC} (oc) "Packet Error Check Output. This is an open-drain output with a 50 kO pull-up that goes low if the packet error check fails.", 49 SDO (hiz) "Serial Data Output for SPI Interface. See Figure 4, Figure 5, and the Serial Interface section for more details."
part B pins: 9 NC "No Connect", 10 NC "No Connect", 14 NC "No Connect", 20 NC "No Connect", 21 NC "No Connect", 22 NC "No Connect", 23 NC "No Connect", 24 NC "No Connect", 25 NC "No Connect", 26 NC "No Connect", 27 NC "No Connect", 30 NC "No Connect", 39 NC "No Connect", 40 NC "No Connect", 41 NC "No Connect", 42 NC "No Connect"
part C pins: 11 VDD (power) "Positive Analog Power Supply; 9 V to 16.5 V for specified performance. These pins should be decoupled with 0.1 uF ceramic capacitors and 10 uF capacitors.", 12 VSS (power) "Negative Analog Power Supply; -16.5 V to -8 V for specified performance. These pins should be decoupled with 0.1 uF ceramic capacitors and 10 uF capacitors.", 19 SIGGND1 (power) "Reference Ground for DAC 4 to DAC 7. VOUT4 to VOUT7 are referenced to this voltage.", 28 VDD (power) "Positive Analog Power Supply; 9 V to 16.5 V for specified performance. These pins should be decoupled with 0.1 uF ceramic capacitors and 10 uF capacitors.", 29 VSS (power) "Negative Analog Power Supply; -16.5 V to -8 V for specified performance. These pins should be decoupled with 0.1 uF ceramic capacitors and 10 uF capacitors.", 38 SIGGND0 (power) "Reference Ground for DAC 0 to DAC 3. VOUT0 to VOUT3 are referenced to this voltage.", 43 DGND (power) "Ground for All Digital Circuitry. Both DGND pins should be connected to the DGND plane.", 44 DVCC (power) "Logic Power Supply; 2.5 V to 5.5 V. These pins should be decoupled with 0.1 uF ceramic capacitors and 10 uF capacitors", 50 DVCC (power) "Logic Power Supply; 2.5 V to 5.5 V. These pins should be decoupled with 0.1 uF ceramic capacitors and 10 uF capacitors", 51 DGND (power) "Ground for All Digital Circuitry. Both DGND pins should be connected to the DGND plane.", 52 AGND (power) "Ground for All Analog Circuitry. The AGND pin should be connected to the AGND plane."